# Altium footprint library SPECIAL.PCBLIB: 4 footprints
Each footprint in its own frame and in the unit in brackets; x right, y up, seen from the top. Pads: shape width x height; smd on the part's side, far side on the other; paste and mask are expansions set on the pad; w line width, h text height; cw(c..) or ccw(c..) is an arc to the next point about the centre after c.
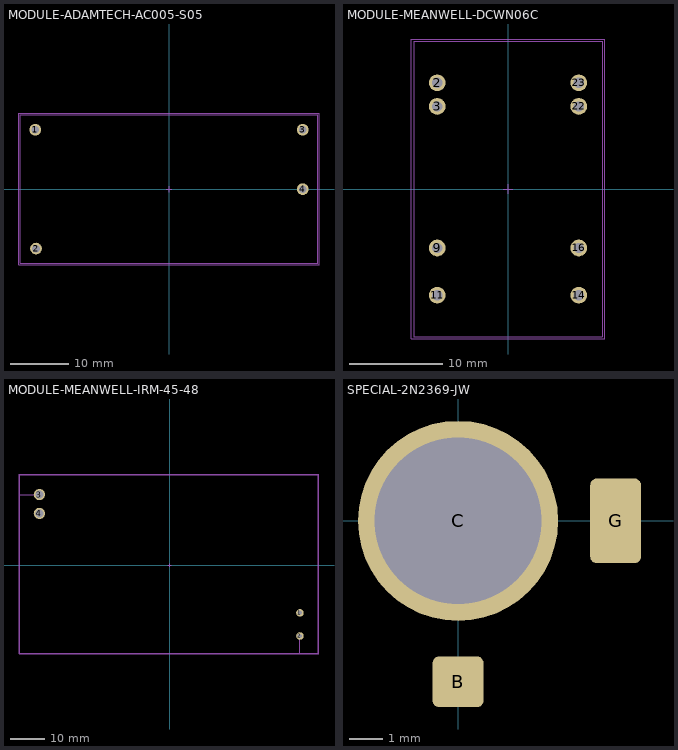
[diagram p0: the footprints below, top view; thin cyan lines are the x and y axes]

## MODULE-ADAMTECH-AC005-S05 [mm] "MODULE-ADAMTECH-AC005-S05"
pads (4):
  round 2 hole 1.3 unplated: 1(-22.86,10.16) 2(-22.735,-10.16) 3(22.86,10.16) 4(22.86,0)
Top Courtyard:
  lines w0.05: -0.5,0 0,0 ; 0,-0.5 0,0 ; 0,0.5 0,0 ; 0.5,0 0,0 ; -25.65,-12.9 25.65,-12.9 25.65,12.95 -25.65,12.95 -25.65,-12.9
Top Assembly:
  lines w0.05: -25.4,-12.65 -25.4,12.7 25.4,12.7 25.4,-12.65 -25.4,-12.65
3D body: height 17.2, standoff 0, extent -25.4,-12.65 25.4,12.7

## MODULE-MEANWELL-DCWN06C [mm] "MODULE-MEANWELL-DCWN06C"
pads (8):
  round 1.8 hole 1.1 unplated: 2(-7.62,11.43) 3(-7.62,8.89) 9(-7.62,-6.35) 11(-7.62,-11.43) 14(7.62,-11.43) 16(7.62,-6.35) 22(7.62,8.89) 23(7.62,11.43)
Top Courtyard:
  lines w0.05: -0.5,0 0,0 ; 0,-0.5 0,0 ; 0,0.5 0,0 ; 0.5,0 0,0 ; -10.4,-16.15 10.4,-16.15 10.4,16.15 -10.4,16.15 -10.4,-16.15
Top Assembly:
  lines w0.05: -10.15,-15.9 10.15,-15.9 10.15,15.9 -10.15,15.9 -10.15,-15.9
3D body: height 10.2, standoff 0, extent -10.15,-15.9 10.15,15.9

## MODULE-MEANWELL-IRM-45-48 [mm] "MODULE-MEANWELL-IRM-45-48"
pads (4):
  round 2.2 hole 1.3 unplated: 1(38,-13.875) 2(38,-20.625)
  round 3.3 hole 2.4 unplated: 3(-38,20.625) 4(-38,15.125)
Board:
  lines w0.05: -38,-25.625 38,-25.625 ; -38,20.625 -43.7,20.625 -43.7,19.975 -43.7,-25.625 ; 38,-20.625 38,-25.625 ; -43.7,-25.625 38,-25.625 ; -43.7,-25.625 -43.7,26.375 43.3,26.375 43.3,-25.625 38,-25.625
Top Courtyard:
  lines w0.05: -0.5,0 0,0 ; 0,-0.5 0,0 ; 0,0.5 0,0 ; 0.5,0 0,0 ; -43.95,-25.875 -43.95,26.625 43.55,26.625 43.55,-25.875 -43.95,-25.875
3D body "power_supply_irm-45-48.stp": height 29.51, standoff -3.49, extent -43.7,-25.625 43.3,26.375

## SPECIAL-2N2369-JW [mil]
pads (3):
  rrect25% 60x60 smd mask+1.97: B(0,-190)
  round 236.22 hole 196.85 mask+5.91: C(0,0)
  rrect25% 60x100 smd mask+1.97: G(186,0)
3D body: height 140, standoff 120, extent -10,-200 10,-180
3D body: height 140, standoff 120, extent -10,-58.96 10,-38.96
3D body: height 140, standoff 120, extent 40,-10 60,10
3D body "to18.stp": height 131.5, standoff -92.91, extent -147.69,-147.69 174.34,174.34
3D body: height 140, standoff 120, extent 235,-10 285,10
3D body: height 140, standoff 120, extent 200,-10 250,10
3D body: height 140, standoff 120, extent 50,-10 100,10
3D body: height 140, standoff 120, extent 75,-10 125,10
3D body: height 140, standoff 120, extent 125,-10 175,10
3D body: height 140, standoff 120, extent 175,-10 225,10
3D body: height 140, standoff 120, extent -10,-100 10,-50
3D body: height 140, standoff 120, extent -9.96,-140 10.04,-90
3D body: height 140, standoff 120, extent -10,-190 10,-140
3D body: height 130, standoff 0, extent -10,-200 10,-180
3D body "User Library-1206 SMD Resistor.step": height 124.99, standoff -0.99, extent 166.55,-31.5 206,31.5
3D body: height 140, standoff 120, extent -60,-10 -40,10